# Altium schematic symbol library Resistors.SchLib: 442 symbols (part 3 of 3)
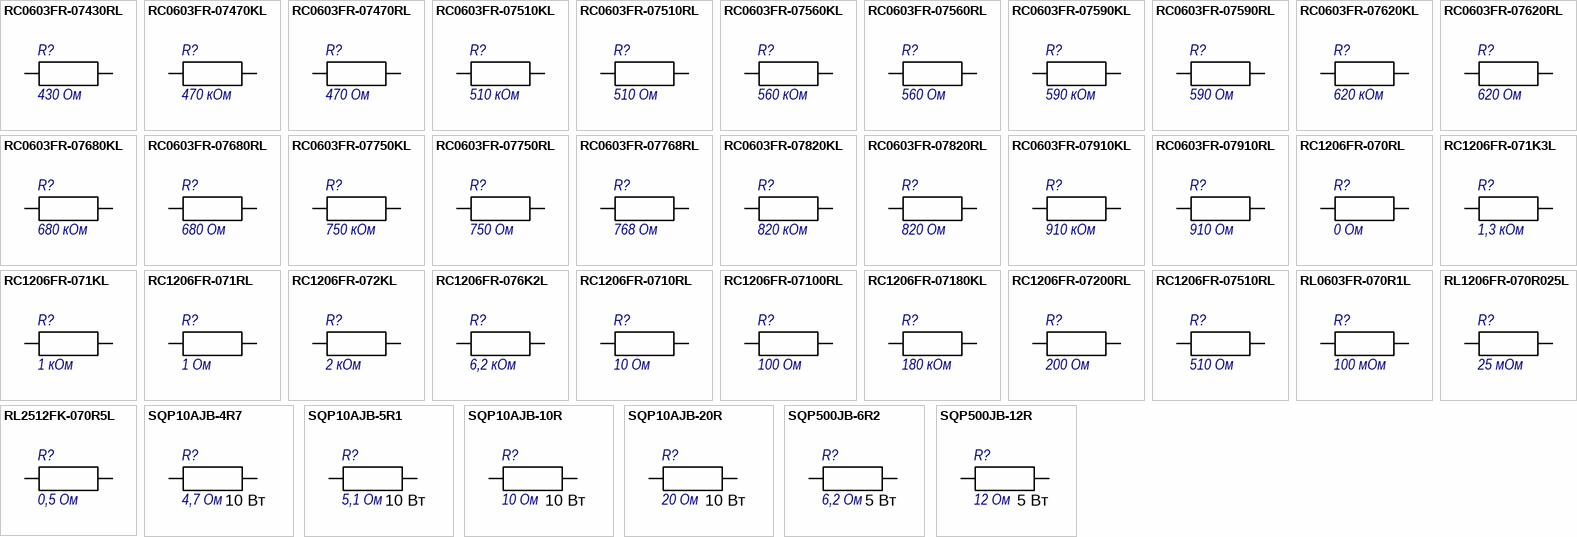
[diagram p13: symbols RC0603FR-07430RL to SQP500JB-12R]

## RC1206FR-07100RL
designator R?, comment 100 Ом
SMD 1206; 0,25; 1%; 100 Ом; Part Number: RC1206FR-07100RL; Manufacturer: Yageo; Power: 0,25; Package: SMD 1206; Persent: 1%; Value: 100 Ом; Category: R
footprint C1206R
pins: 1, 2

## RC1206FR-07180KL
designator R?, comment 180 кОм
SMD 1206; 0,25; 1%; 180 кОм; Part Number: RC1206FR-07180KL; Manufacturer: Yageo; Power: 0,25; Package: SMD 1206; Persent: 1%; Value: 180 кОм; Category: R
footprint C1206R
pins: 1, 2

## RC1206FR-07200RL
designator R?, comment 200 Ом
SMD 1206; 0,25; 1%; 200 Ом; Part Number: RC1206FR-07200RL; Manufacturer: Yageo; Power: 0,25; Package: SMD 1206; Persent: 1%; Value: 200 Ом; Category: R
footprint C1206R
pins: 1, 2

## RC1206FR-07510RL
designator R?, comment 510 Ом
SMD 1206; 0,25; 1%; 510 Ом; Part Number: RC1206FR-07510RL; Manufacturer: Yageo; Power: 0,25; Package: SMD 1206; Persent: 1%; Value: 510 Ом; Category: R
footprint C1206R
pins: 1, 2

## RL0603FR-070R1L
designator R?, comment 100 мОм
SMD 0603; 0,1; 1%; 100 мОм; Part Number: RL0603FR-070R1L; Manufacturer: Yageo; Power: 0,1; Package: SMD 0603; Persent: 1%; Value: 100 мОм; Category: R
footprint C0603R
pins: 1, 2

## RL1206FR-070R025L
designator R?, comment 25 мОм
SMD 1206; 0,25; 1%; 25 мОм; Part Number: RL1206FR-070R025L; Manufacturer: Yageo; Power: 0,25; Package: SMD 1206; Persent: 1%; Value: 25 мОм; Category: R
footprint C1206R
pins: 1, 2

## RL2512FK-070R5L
designator R?, comment 0,5 Ом
SMD 2512; 1; 1%; 0,5 Ом; Part Number: RL2512FK-070R5L; Manufacturer: Yageo; Power: 1; Package: SMD 2512; Persent: 1%; Value: 0,5 Ом; Category: R
footprint C2512R
pins: 1, 2

## SQP10AJB-4R7
designator R?, comment 4,7 Ом  Power: 10 Вт
TH; SQP-10W; 10; 5%; 4,7 Ом; Part Number: SQP10AJB-4R7; Manufacturer: Yageo; Package: SQP-10W; Persent: 5%; Category: R; Value: 4,7 Ом
footprint TH_SQP-10W
pins: 1, 2

## SQP10AJB-5R1
designator R?, comment 5,1 Ом  Power: 10 Вт
TH; SQP-10W; 10; 5%; 5,1 Ом; Part Number: SQP10AJB-5R1; Manufacturer: Yageo; Package: SQP-10W; Persent: 5%; Category: R; Value: 5,1 Ом
footprint TH_SQP-10W
pins: 1, 2

## SQP10AJB-10R
designator R?, comment 10 Ом  Power: 10 Вт
TH; SQP-10W; 10; 5%; 10 Ом; Part Number: SQP10AJB-10R; Manufacturer: Yageo; Package: SQP-10W; Persent: 5%; Category: R; Value: 10 Ом
footprint TH_SQP-10W
pins: 1, 2

## SQP10AJB-20R
designator R?, comment 20 Ом  Power: 10 Вт
TH; SQP-10W; 10; 5%; 20 Ом; Part Number: SQP10AJB-20R; Manufacturer: Yageo; Package: SQP-10W; Persent: 5%; Category: R; Value: 20 Ом
footprint TH_SQP-10W
pins: 1, 2

## SQP500JB-6R2
designator R?, comment 6,2 Ом  Power: 5 Вт
TH; SQP-5W; 10; 5%; 6,2 Ом; Part Number: SQP500JB-6R2; Manufacturer: Yageo; Package: SQP-5W; Persent: 5%; Category: R; Value: 6,2 Ом
footprint TH_SQP-5W
pins: 1, 2

## SQP500JB-12R
designator R?, comment 12 Ом  Power: 5 Вт
TH; SQP-5W; 10; 5%; 12 Ом; Part Number: SQP500JB-12R; Manufacturer: Yageo; Package: SQP-5W; Persent: 5%; Category: R; Value: 12 Ом
footprint TH_SQP-5W
pins: 1, 2

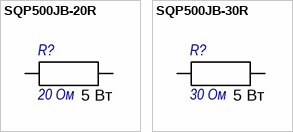
[diagram p11: symbols SQP500JB-20R to SQP500JB-30R]

## SQP500JB-20R
designator R?, comment 20 Ом  Power: 5 Вт
TH; SQP-5W; 10; 5%; 20 Ом; Part Number: SQP500JB-20R; Manufacturer: Yageo; Package: SQP-5W; Persent: 5%; Category: R; Value: 20 Ом
footprint TH_SQP-5W
pins: 1, 2

## SQP500JB-30R
designator R?, comment 30 Ом  Power: 5 Вт
TH; SQP-5W; 10; 5%; 30 Ом; Part Number: SQP500JB-30R; Manufacturer: Yageo; Package: SQP-5W; Persent: 5%; Category: R; Value: 30 Ом
footprint TH_SQP-5W
pins: 1, 2